# Altium footprint library MAKO_PCB_LIB.PcbLib: 22 footprints (part 1 of 2)
Each footprint in its own frame and in the unit in brackets; x right, y up, seen from the top. Pads: shape width x height; smd on the part's side, far side on the other; paste and mask are expansions set on the pad; w line width, h text height; cw(c..) or ccw(c..) is an arc to the next point about the centre after c.
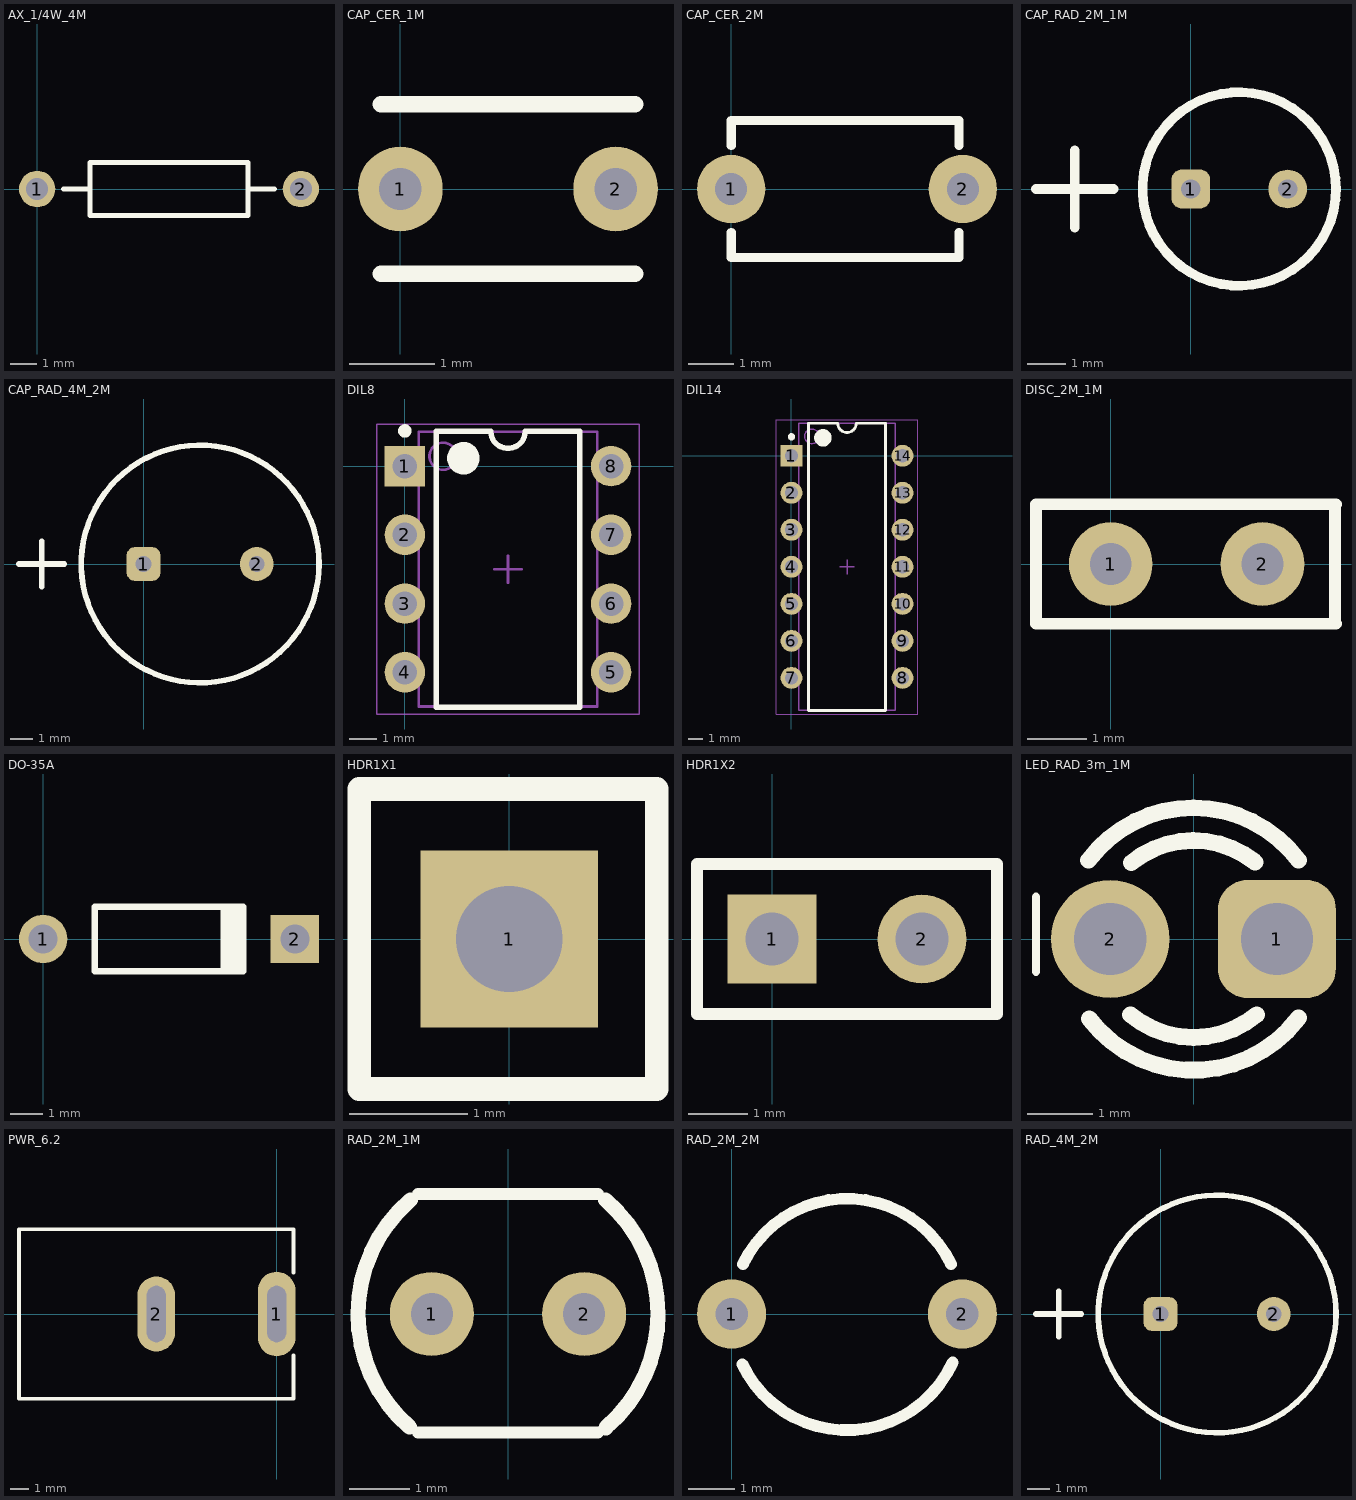
[diagram p0: the footprints below, top view; thin cyan lines are the x and y axes]

## AX_1/4W_4M [mm] "Axial Device, Thru-Hole; 2 Leads; 0.4 in Pin Spacing"
height 2.032
pads (2):
  round 1.4 hole 0.85: 1(0,0) 2(10.16,0)
Top Overlay:
  lines w0.2: 1.016,0 2.032,0 ; 8.128,0 9.144,0 ; 2.032,-1.016 8.128,-1.016 8.128,1.016 2.032,1.016 2.032,-1.016

## CAP_CER_1M [mm] "Radial Cap, Thru-Hole; 2 Leads; 0.2 in Pin Spacing"
height 5
pads (2):
  round 1 hole 0.5: 1(0,0) 2(2.54,0)
Top Overlay:
  lines w0.2: -0.23,-1 2.77,-1 ; -0.23,1 2.77,1

## CAP_CER_2M [mm] "Radial Cap, Thru-Hole; 2 Leads; 0.2 in Pin Spacing"
height 8
pads (2):
  round 1.5 hole 0.7: 1(0,0) 2(5.08,0)
Top Overlay:
  lines w0.2: 0,-0.953 0,-1.5 5,-1.5 5,-0.953 ; 0,0.953 0,1.5 5,1.5 5,0.953

## CAP_RAD_2M_1M [mm] "Capacitor (Radial); 2 Leads"
height 12
pads (2):
  rrect50% 1x1 hole 0.5: 1(0,0)
  round 1 hole 0.5: 2(2.5,0)
Top Overlay:
  circle w0.25: c1.25,0 r2.5
  lines w0.25: -4,0 -2,0 ; -3,-1 -3,1
Mechanical 1:
  circle w0.02: c1.25,0 r2.5

## CAP_RAD_4M_2M [mm] "Capacitor (Radial); 2 Leads"
height 17
pads (2):
  rrect50% 1.5x1.5 hole 0.7: 1(0,0)
  round 1.5 hole 0.7: 2(5,0)
Top Overlay:
  circle w0.25: c2.5,0 r5.25
  lines w0.25: -5.5,0 -3.5,0 ; -4.5,-1 -4.5,1
Mechanical 1:
  circle w0.02: c2.5,0 r5.25

## DIL8 [mm] "DIP, 8-Leads, Body 10.15x6.6mm, Pitch 2.54mm"
height 5.08
pads (8):
  rect 1.5x1.5 hole 0.9: 1(0,0)
  round 1.5 hole 0.9: 2(0,-2.54) 3(0,-5.08) 4(0,-7.62) 5(7.62,-7.62) 6(7.62,-5.08) 7(7.62,-2.54) 8(7.62,0)
Top Overlay:
  circle w0.25: c0,1.3 r0.125
  circle w0.6: c2.16,0.29 r0.3
  lines w0.2: 1.16,-8.91 1.16,1.29 3.175,1.29 ccw(c3.81,1.29) 4.445,1.29 6.46,1.29 6.46,-8.91 1.16,-8.91
Mechanical 13:
  circle w0.1: c1.41,0.365 r0.5
  lines w0.1: 0.51,-8.885 0.51,1.265 7.11,1.265 7.11,-8.885 0.51,-8.885
Mechanical 15:
  lines w0.05: -1.04,-9.16 -1.04,1.54 8.66,1.54 8.66,-9.16 -1.04,-9.16
  lines w0.1: 3.31,-3.81 4.31,-3.81 ; 3.81,-4.31 3.81,-3.31
3D body: height 2.66, standoff 0, extent -0.135,-0.5 0.135,0.5
3D body: height 2.93, standoff 2.66, extent -0.135,-0.5 0.51,0.5
3D body: height 0, standoff -1.6, extent -0.135,-0.36 0.135,0.36
3D body: height 2.66, standoff 0, extent -0.135,-3.04 0.135,-2.04
3D body: height 2.93, standoff 2.66, extent -0.135,-3.04 0.51,-2.04
3D body: height 0, standoff -1.6, extent -0.135,-2.9 0.135,-2.18
3D body: height 2.66, standoff 0, extent -0.135,-5.58 0.135,-4.58
3D body: height 2.93, standoff 2.66, extent -0.135,-5.58 0.51,-4.58
3D body: height 0, standoff -1.6, extent -0.135,-5.44 0.135,-4.72
3D body: height 2.66, standoff 0, extent -0.135,-8.12 0.135,-7.12
3D body: height 2.93, standoff 2.66, extent -0.135,-8.12 0.51,-7.12
3D body: height 0, standoff -1.6, extent -0.135,-7.98 0.135,-7.26
3D body: height 2.66, standoff 0, extent 7.485,-8.12 7.755,-7.12
3D body: height 2.93, standoff 2.66, extent 7.11,-8.12 7.755,-7.12
3D body: height 0, standoff -1.6, extent 7.485,-7.98 7.755,-7.26
3D body: height 2.66, standoff 0, extent 7.485,-5.58 7.755,-4.58
3D body: height 2.93, standoff 2.66, extent 7.11,-5.58 7.755,-4.58
3D body: height 0, standoff -1.6, extent 7.485,-5.44 7.755,-4.72
3D body: height 2.66, standoff 0, extent 7.485,-3.04 7.755,-2.04
3D body: height 2.93, standoff 2.66, extent 7.11,-3.04 7.755,-2.04
3D body: height 0, standoff -1.6, extent 7.485,-2.9 7.755,-2.18
3D body: height 2.66, standoff 0, extent 7.485,-0.5 7.755,0.5
3D body: height 2.93, standoff 2.66, extent 7.11,-0.5 7.755,0.5
3D body: height 0, standoff -1.6, extent 7.485,-0.36 7.755,0.36
3D body: height 5.08, standoff 0.51, extent 0.51,-8.885 7.11,1.265

## DIL14 [mm] "DIP, 14-Leads, Body 19.7x6.6mm, Pitch 2.54mm"
height 5.08
pads (14):
  rect 1.5x1.5 hole 0.9: 1(0,0)
  round 1.5 hole 0.9: 2(0,-2.54) 3(0,-5.08) 4(0,-7.62) 5(0,-10.16) 6(0,-12.7) 7(0,-15.24) 8(7.62,-15.24) 9(7.62,-12.7) 10(7.62,-10.16) 11(7.62,-7.62) 12(7.62,-5.08) 13(7.62,-2.54) 14(7.62,0)
Top Overlay:
  circle w0.6: c2.16,1.23 r0.3
  circle w0.25: c0,1.3 r0.125
  lines w0.2: 1.16,-17.47 6.46,-17.47 6.46,2.23 4.445,2.23 cw(c3.81,2.23) 3.175,2.23 1.16,2.23 1.16,-17.47
Mechanical 13:
  circle w0.1: c1.41,1.33 r0.5
  lines w0.1: 0.51,-17.47 7.11,-17.47 7.11,2.23 0.51,2.23 0.51,-17.47
Mechanical 15:
  lines w0.05: -1.04,-17.72 8.66,-17.72 8.66,2.48 -1.04,2.48 -1.04,-17.72
  lines w0.1: 3.31,-7.62 4.31,-7.62 ; 3.81,-8.12 3.81,-7.12
3D body: height 5.08, standoff 0.51, extent 0.51,-17.47 7.11,2.23
3D body: height 0, standoff -1.6, extent 7.485,-0.36 7.755,0.36
3D body: height 2.93, standoff 2.66, extent 7.11,-0.5 7.755,0.5
3D body: height 2.66, standoff 0, extent 7.485,-0.5 7.755,0.5
3D body: height 0, standoff -1.6, extent 7.485,-2.9 7.755,-2.18
3D body: height 2.93, standoff 2.66, extent 7.11,-3.04 7.755,-2.04
3D body: height 2.66, standoff 0, extent 7.485,-3.04 7.755,-2.04
3D body: height 0, standoff -1.6, extent 7.485,-5.44 7.755,-4.72
3D body: height 2.93, standoff 2.66, extent 7.11,-5.58 7.755,-4.58
3D body: height 2.66, standoff 0, extent 7.485,-5.58 7.755,-4.58
3D body: height 0, standoff -1.6, extent 7.485,-7.98 7.755,-7.26
3D body: height 2.93, standoff 2.66, extent 7.11,-8.12 7.755,-7.12
3D body: height 2.66, standoff 0, extent 7.485,-8.12 7.755,-7.12
3D body: height 0, standoff -1.6, extent 7.485,-10.52 7.755,-9.8
3D body: height 2.93, standoff 2.66, extent 7.11,-10.66 7.755,-9.66
3D body: height 2.66, standoff 0, extent 7.485,-10.66 7.755,-9.66
3D body: height 0, standoff -1.6, extent 7.485,-13.06 7.755,-12.34
3D body: height 2.93, standoff 2.66, extent 7.11,-13.2 7.755,-12.2
3D body: height 2.66, standoff 0, extent 7.485,-13.2 7.755,-12.2
3D body: height 0, standoff -1.6, extent 7.485,-15.6 7.755,-14.88
3D body: height 2.93, standoff 2.66, extent 7.11,-15.74 7.755,-14.74
3D body: height 2.66, standoff 0, extent 7.485,-15.74 7.755,-14.74
3D body: height 0, standoff -1.6, extent -0.135,-15.6 0.135,-14.88
3D body: height 2.93, standoff 2.66, extent -0.135,-15.74 0.51,-14.74
3D body: height 2.66, standoff 0, extent -0.135,-15.74 0.135,-14.74
3D body: height 0, standoff -1.6, extent -0.135,-13.06 0.135,-12.34
3D body: height 2.93, standoff 2.66, extent -0.135,-13.2 0.51,-12.2
3D body: height 2.66, standoff 0, extent -0.135,-13.2 0.135,-12.2
3D body: height 0, standoff -1.6, extent -0.135,-10.52 0.135,-9.8
3D body: height 2.93, standoff 2.66, extent -0.135,-10.66 0.51,-9.66
3D body: height 2.66, standoff 0, extent -0.135,-10.66 0.135,-9.66
3D body: height 0, standoff -1.6, extent -0.135,-7.98 0.135,-7.26
3D body: height 2.93, standoff 2.66, extent -0.135,-8.12 0.51,-7.12
3D body: height 2.66, standoff 0, extent -0.135,-8.12 0.135,-7.12
3D body: height 0, standoff -1.6, extent -0.135,-5.44 0.135,-4.72
3D body: height 2.93, standoff 2.66, extent -0.135,-5.58 0.51,-4.58
3D body: height 2.66, standoff 0, extent -0.135,-5.58 0.135,-4.58
3D body: height 0, standoff -1.6, extent -0.135,-2.9 0.135,-2.18
3D body: height 2.93, standoff 2.66, extent -0.135,-3.04 0.51,-2.04
3D body: height 2.66, standoff 0, extent -0.135,-3.04 0.135,-2.04
3D body: height 0, standoff -1.6, extent -0.135,-0.36 0.135,0.36
3D body: height 2.93, standoff 2.66, extent -0.135,-0.5 0.51,0.5
3D body: height 2.66, standoff 0, extent -0.135,-0.5 0.135,0.5

## DISC_2M_1M [mm] "Radial Cap, Thru-Hole; 2 Leads; 0.2 in Pin Spacing"
height 8
pads (2):
  round 1.4 hole 0.7: 1(0,0) 2(2.54,0)
Top Overlay:
  lines w0.2: -1.25,-1 -1.25,1 ; -1.23,-1 3.77,-1 ; -1.23,1 3.77,1 ; 3.75,-1 3.75,1

## DO-35A [mm] "Diode, Axial; Body 4.6 x 1.9 mm (LxDia. max), Lead Dia. 0.53 mm (max)"
height 2
pads (2):
  round 1.5 hole 0.9: 1(0,0)
  rect 1.5x1.5 hole 0.9: 2(7.8,0)
Top Overlay:
  rectangle: 5.5,-1 6.3,1
  lines w0.2: 6.2,-1 1.6,-1 1.6,1 6.2,1

## HDR1X1 [mm] "Connector; Header; 1Position"
pads (1):
  rect 1.5x1.5 hole 0.9: 1(0,0)
Top Overlay:
  lines w0.2: 1.25,1.25 1.25,-1.27 -1.27,-1.27 -1.27,1.27 1.25,1.27

## HDR1X2 [mm] "Connector; Header; 2 Position"
pads (2):
  rect 1.5x1.5 hole 0.9: 1(0,0)
  round 1.5 hole 0.9: 2(2.54,0)
Top Overlay:
  lines w0.2: -1.27,-1.27 -1.27,1.27 3.81,1.27 3.81,-1.27 -1.27,-1.27

## LED_RAD_3m_1M [mm] "LED; 2 Leads"
height 5
pads (2):
  rrect50% 1.8x1.8 hole 1.1: 1(1.27,0)
  round 1.8 hole 1.1: 2(-1.27,0)
Top Overlay:
  lines w0.127: -2.4,-0.5 -2.4,0.643
  lines w0.254: -1.6,1.2 cw(c0,0) 1.6,1.2 ; -1.589,-1.215 ccw(c0,0) 1.6,-1.2 ; -0.96,-1.152 ccw(c0,0) 0.96,-1.152 ; -0.95,1.161 cw(c0,0) 0.937,1.171

## PWR_6.2 [mm] "DC Power Jack, 2.5mm, KLD Series, PCB Mount"
height 11
pads (2):
  oval 2x4.5 hole 1 slot 3 at 90 deg: 1(0,0)
  oval 2x4 hole 1 slot 3 at 90 deg: 2(-6.4,0)
Top Overlay:
  lines w0.2: -1,-4.5 0.9,-4.5 ; 0.9,-2.2 0.9,-4.5 ; 0.9,2.2 0.9,4.5 -13.7,4.5 -13.7,-4.5 0.9,-4.5

## RAD_2M_1M [mm]
height 3
pads (2):
  round 1.4 hole 0.7: 1(-1.27,0) 2(1.27,0)
Top Overlay:
  lines w0.2: -1.5,-1.973 1.5,-1.973 ; -1.5,2 -0.46,2 0.441,2 1.5,2
  lines w0.254: -1.642,-1.885 cw(c0,0) -1.627,1.898 ; 1.627,1.898 cw(c0,0) 1.631,-1.894

## RAD_2M_2M [mm] "Inductor (Radial); 2 Leads"
height 7
pads (2):
  round 1.5 hole 0.7: 1(0,0) 2(5,0)
Top Overlay:
  lines w0.254: 0.228,-1.086 ccw(c2.5,0) 4.789,-1.049 ; 0.245,1.079 cw(c2.5,0) 4.755,1.079

## RAD_4M_2M [mm] "Capacitor (Radial); 2 Leads"
height 17
pads (2):
  rrect50% 1.5x1.5 hole 0.7: 1(0,0)
  round 1.5 hole 0.7: 2(5,0)
Top Overlay:
  circle w0.25: c2.5,0 r5.25
  lines w0.25: -5.5,0 -3.5,0 ; -4.5,-1 -4.5,1
Mechanical 1:
  circle w0.02: c2.5,0 r5.25